# Altium schematic symbol library Mounting Hole.SchLib: 1 symbol
Pins are listed as number, name and electrical type; pins without a type are passive.

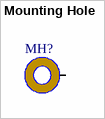
[diagram p0: symbol Mounting Hole]

## Mounting Hole
designator MH?  (value not drawn)  (mechanical)
Mechanical, Mounting Hole; Component Type: Mounting Hole; Component Category: Mechanical
footprint Mounting Hole - Hole-3.2mm, Pad-5mm
pins: Hole